# EAGLE library part GDT (library induction-heater)
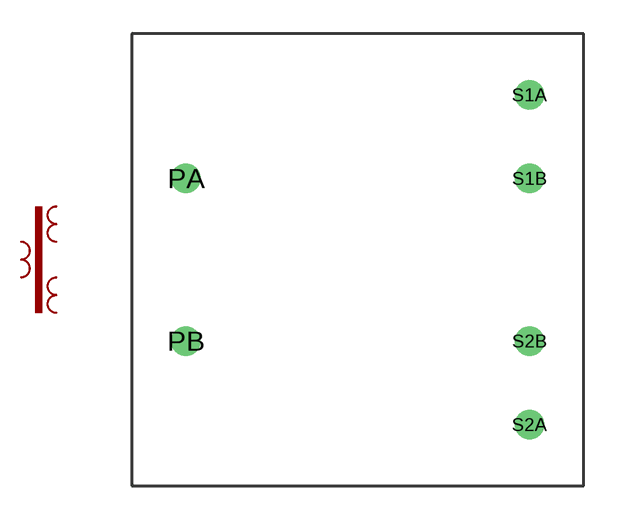
[diagram p0: symbol with the pads of GDT; footprint GDT]

Designator prefix TR

## GDT  [GDT]
PA  PA  pas
PB  PB  pas
S1A  S1A  pas
S1B  S1B  pas
S2A  S2A  pas
S2B  S2B  pas

## Footprint GDT (pad centres in mm)
drill 0.8: PA -7.6,3.6; PB -7.6,-3.6; S1A 7.6,7.3; S1B 7.6,3.6; S2A 7.6,-7.3; S2B 7.6,-3.6